# Altium schematic symbol library MOC3063.SchLib: 1 symbol
Pins are listed as number, name and electrical type; pins without a type are passive.

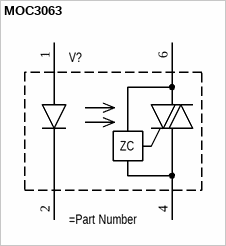
[diagram p0: symbol MOC3063]

## MOC3063
designator V?
Оптрон тиристорный
pins: 1 +, 2 -, 4, 6
text: ZC